# Altium footprint library MKP-12V1A - 副本.PcbLib: 23 footprints (part 1 of 2)
Each footprint in its own frame and in the unit in brackets; x right, y up, seen from the top. Pads: shape width x height; smd on the part's side, far side on the other; paste and mask are expansions set on the pad; w line width, h text height; cw(c..) or ccw(c..) is an arc to the next point about the centre after c.
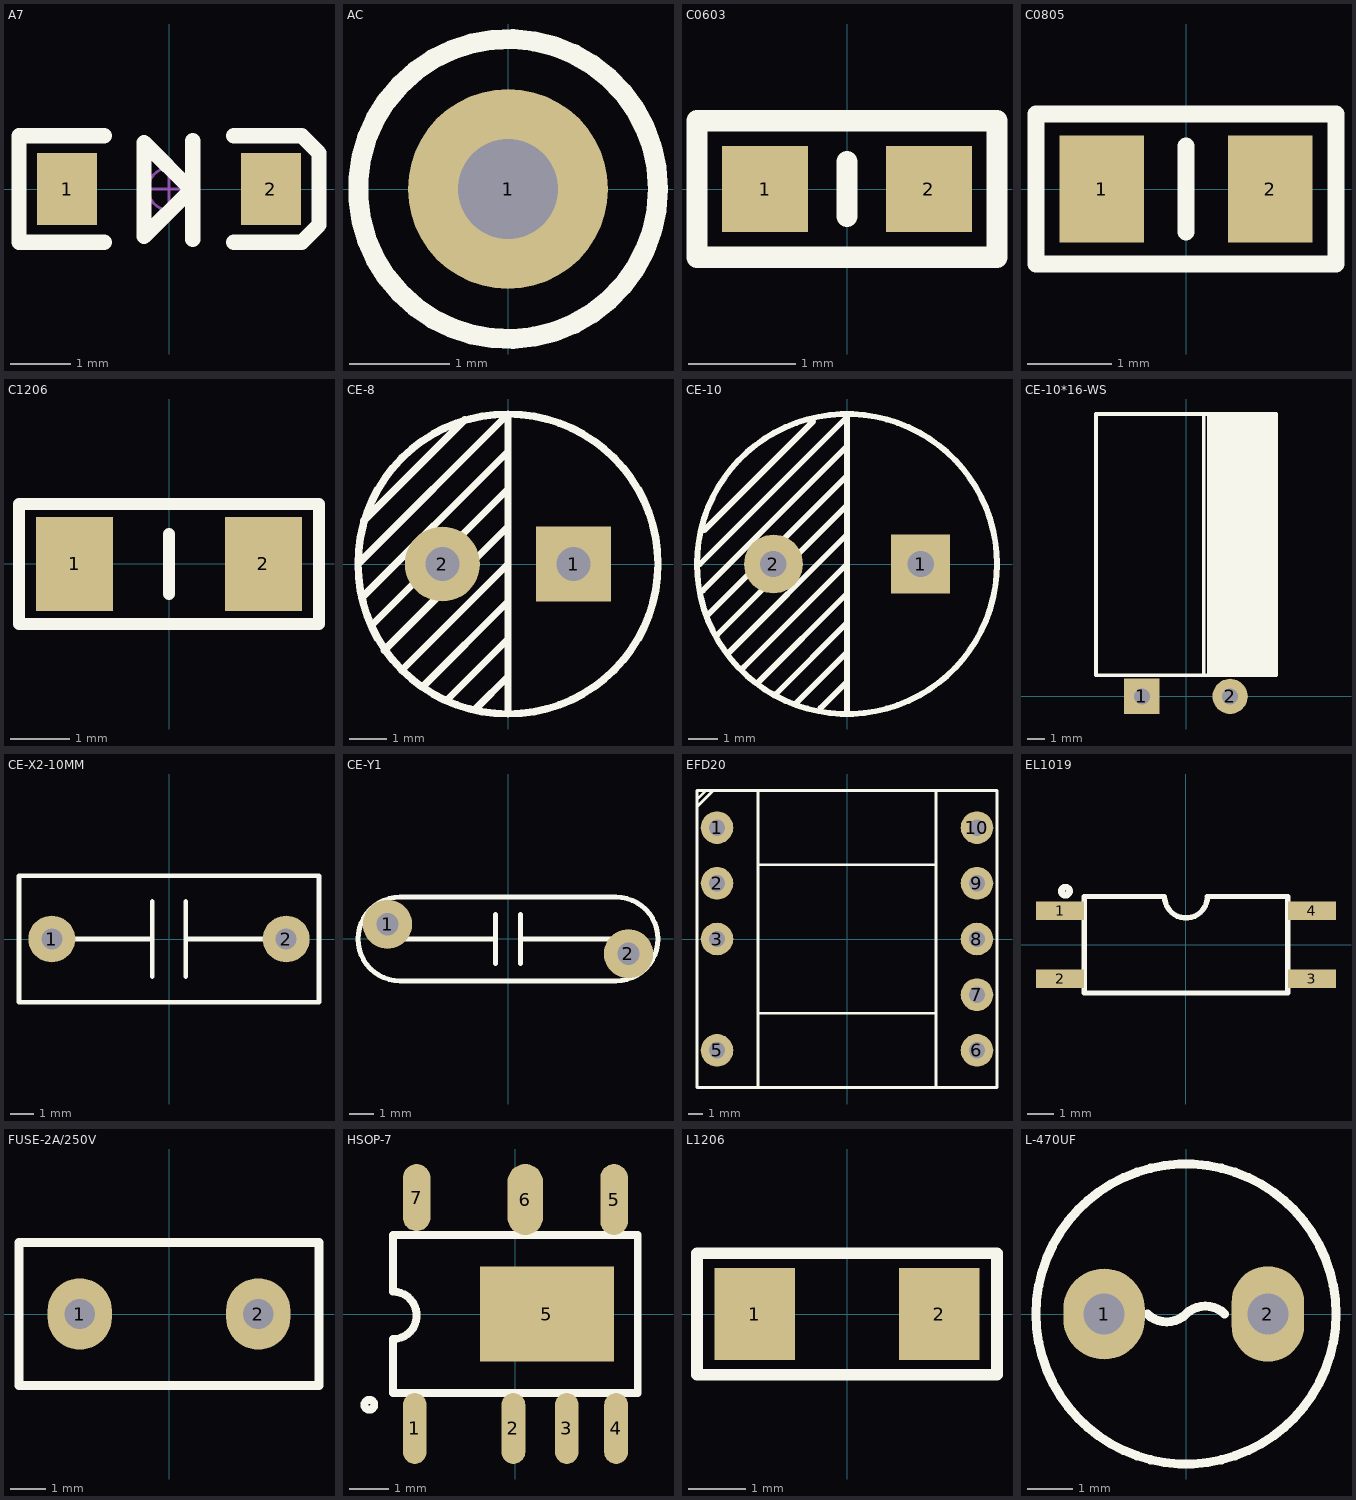
[diagram p0: the footprints below, top view; thin cyan lines are the x and y axes]

## A7 [mm]
pads (2):
  rect 1x1.2 smd: 1(-1.7,0) 2(1.7,0)
Top Overlay:
  lines w0.254: -1.079,-0.889 -2.5,-0.889 -2.5,0.889 -1.079,0.889 ; 0.356,-0.02 -0.417,-0.792 -0.417,0.775 0.396,-0.038 ; 0.396,-0.841 0.396,0.805 ; 1.079,-0.889 2.211,-0.889 2.5,-0.6 2.5,0.6 2.211,0.889 1.079,0.889
Mechanical 15:
  circle w0.05: c0,0 r0.35
  lines w0.05: -0.5,0 0.5,0 ; 0,-0.5 0,0.5
3D body: height 1.2, standoff 0, extent -1.4,-0.9 1.4,0.9
3D body: height 0.2, standoff 0, extent 1.3,-0.5 1.9,0.5
3D body: height 0.2, standoff 0, extent -1.9,-0.5 -1.3,0.5

## AC [mm]
pads (1):
  round 2 hole 1: 1(0,0)
Top Overlay:
  circle w0.2: c0,0 r1.5

## C0603 [mm]
pads (2):
  rect 0.8x0.8 smd: 1(-0.762,0) 2(0.762,0)
Top Overlay:
  lines w0.2: 0,-0.254 0,0.254 ; -1.397,-0.635 -1.397,0.635 1.397,0.635 1.397,-0.635 -1.397,-0.635
3D body "User Library-0603_Cap.step": height 0.8, standoff 0, extent -0.8,-0.4 0.8,0.4

## C0805 [mm]
pads (2):
  rect 1x1.27 smd: 1(-1,0) 2(1,0)
Top Overlay:
  lines w0.2: 0,-0.508 0,0.508 ; -1.778,-0.889 -1.778,0.889 1.778,0.889 1.778,-0.889 -1.778,-0.889
3D body "User Library-0805_Cap.step": height 0.8, standoff 0, extent -1,-0.625 1,0.625

## C1206 [mm]
pads (2):
  rect 1.3x1.6 smd: 1(-1.6,0) 2(1.6,0)
Top Overlay:
  lines w0.2: 0,-0.508 0,0.508 ; -2.54,-1.016 2.54,-1.016 2.54,1.016 -2.54,1.016 -2.54,-1.016
3D body "User Library-1206_Cap.step": height 1.25, standoff 0, extent -1.6,-0.8 1.6,0.8

## CE-8 [mm]
pads (2):
  rect 2x2 hole 0.9: 1(1.75,0)
  round 2 hole 0.9: 2(-1.75,0)
Top Overlay:
  circle w0.2: c0,0 r4
  lines w0.2: -3.95,0.05 0,4 0,-4 ; -3.9,-0.9 0,3 ; -3.85,1.15 -1.15,3.85 ; -3.6,-1.6 0,2 ; -3.3,-2.3 0,1 ; -2.8,-2.8 0,0 ; -2.25,-3.25 0,-1 ; -1.6,-3.6 0,-2 ; -0.85,-3.85 0,-3

## CE-10 [mm]
pads (2):
  rect 2x2 hole 0.9: 1(2.5,0)
  round 2 hole 0.9: 2(-2.5,0)
Top Overlay:
  circle w0.2: c0,0 r5.1
  lines w0.2: -5,0 0,5 0,-5 0,4.6 ; -4.9,-0.9 0,4 ; -4.85,1.15 -1.15,4.85 ; -4.7,-1.7 0,3 ; -4.4,-2.4 0,2 ; -4,-3 0,1 ; -3.5,-3.5 0,0 ; -3,-4 0,-1 ; -2.4,-4.4 0,-2 ; -1.7,-4.7 0,-3 ; -0.9,-4.9 0,-4

## CE-10*16-WS [mm]
pads (2):
  rect 2x2 hole 0.9: 1(-2.5,0)
  round 2 hole 0.9: 2(2.5,0)
Top Overlay:
  rectangle: 1.2,1.2 5.1,16
  lines w0.2: 1,1.2 1,16 ; -5.1,1.2 5.1,1.2 5.1,16 -5.1,16 -5.1,1.2

## CE-X2-10MM [mm]
pads (2):
  round 2 hole 0.9: 1(-5,0) 2(5,0)
Top Overlay:
  lines w0.2: -5,0 -0.711,0 ; -0.711,-1.6 -0.711,1.6 ; 0.711,-1.6 0.711,1.6 ; 0.711,0 5,0 ; -6.4,-2.7 6.4,-2.7 6.4,2.7 -6.4,2.7 -6.4,-2.7

## CE-Y1 [mm]
pads (2):
  round 2 hole 0.9: 1(-4.9,0.6) 2(4.9,-0.6)
Top Overlay:
  lines w0.2: -4.4,-1.7 cw(c-4.4,0) -4.4,1.7 ; -4.4,-1.7 cw(c-4.4,0) -4.4,1.7 ; -4.4,-1.7 4.4,-1.7 ; -4.4,-1.7 4.4,-1.7 ; -4.4,1.7 4.4,1.7 ; -4.4,1.7 4.4,1.7 ; 4.4,-1.7 ccw(c4.4,0) 4.4,1.7 ; 4.4,-1.7 ccw(c4.4,0) 4.4,1.7 ; -5,0 -0.5,0 -5,0 ; -0.5,-1 -0.5,1 -0.5,-1 ; 0.5,-1 0.5,1 0.5,-1 ; 0.5,0 5,0 0.5,0
3D body: height 8.79, standoff 0.81, extent -3.984,-2 3.984,2
3D body: height 0, standoff -3.6, extent 4.652,-0.849 5.15,-0.35
3D body: height 0, standoff -3.6, extent -5.148,0.351 -4.65,0.85
3D body: height 2.83, standoff -0.28, extent 2.074,-0.999 5.183,-0.201
3D body: height 0.4, standoff -0.4, extent 4.504,-0.998 5.3,-0.202
3D body: height 2.83, standoff -0.28, extent -5.183,0.201 -2.074,0.999
3D body: height 0.4, standoff -0.4, extent -5.296,0.202 -4.5,0.998

## EFD20 [mm]
pads (9):
  round 2.2 hole 1.1: 1(-8.75,7.5) 2(-8.75,3.75) 3(-8.75,0) 5(-8.75,-7.5) 6(8.75,-7.5) 7(8.75,-3.75) 8(8.75,0) 9(8.75,3.75) 10(8.75,7.5)
Top Overlay:
  lines w0.2: -10.1,8.9 -9,10 ; -10.1,9.4 -9.5,10 ; -6,-10 -6,10 ; -6,-5 6,-5 ; -6,5 6,5 ; 6,-10 6,10 ; -10.1,-10 10.1,-10 10.1,10 -10.1,10 -10.1,-10

## EL1019 [mm]
pads (4):
  rect 1.8x0.7 smd: 1(-4.7,1.27) 2(-4.7,-1.27) 3(4.7,-1.27) 4(4.7,1.27)
Top Overlay:
  circle w0.254: c-4.5,2 r0.15
  lines w0.2: -3.8,-1.8 3.8,-1.8 3.8,1.8 0.8,1.8 cw(c0,1.8) -0.8,1.8 -3.8,1.8 -3.8,-1.8

## FUSE-2A/250V [mm]
pads (2):
  oval 1.8x2 hole 0.85: 1(-2.5,0) 2(2.5,0)
Top Overlay:
  lines w0.254: -4.2,-2 4.2,-2 4.2,2 -4.2,2 -4.2,-2

## HSOP-7 [mm]
pads (8):
  oval 0.6x1.8 smd: 1(-2.55,-2.9) 2(-0.05,-2.9) 3(1.3,-2.9) 4(2.55,-2.9)
  rect 3.4x2.4 smd: 5(0.8,0)
  oval 0.7x1.8 smd: 5(2.5,2.9)
  oval 0.9x1.8 smd: 6(0.25,2.9)
  oval 0.7x1.7 smd: 7(-2.5,2.95)
Top Overlay:
  circle w0.2: c-3.7,-2.3 r0.125
  lines w0.2: -3.1,0.565 cw(c-3.1,-0.035) -3.1,-0.635 -3.1,-2 3.1,-2 3.1,2 -3.1,2 -3.1,0.635
3D body: height 2.5, standoff 0, extent -3.175,-2.667 3.302,2.54

## L1206 [mm]
pads (2):
  rect 1.4x1.6 smd: 1(-1.6,0) 2(1.6,0)
Top Overlay:
  lines w0.2: -2.6,-1.05 2.6,-1.05 2.6,1.05 -2.6,1.05 -2.6,-1.05

## L-470UF [mm]
pads (2):
  oval 1.8x2 hole 0.9: 1(-1.8,0)
  oval 1.6x2.1 hole 0.9: 2(1.8,0)
Top Overlay:
  circle w0.2: c0,0 r3.3
  lines w0.2: -0.849,0 ccw(c-0.424,0.424) 0,0 cw(c0.424,-0.424) 0.849,0